# Altium schematic symbol library ad-opamp.SchLib: 4 symbols
Pins are listed as number, name and electrical type; pins without a type are passive.

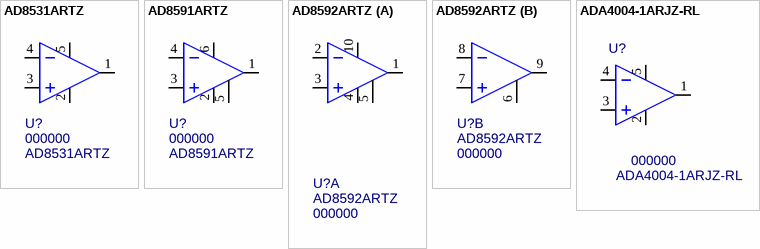
[diagram p0: symbols AD8531ARTZ to ADA4004-1ARJZ-RL]

## AD8531ARTZ
designator U?, comment 000000  value AD8531ARTZ
3MHZ, 250 mA Output, Low Voltage, Rail-to-Rail, Operational Amplifier; Package: SOT23-5; PN: 000000; ExtraInfo: *
footprint SOT23-5 (SOT23, 5-Leads, Body 3.0x3.0mm (max), Pitch 0.95mm, IPC High Density)
simulation model AD8531 (AD8531 SPICE Macro-model)
pins: 1 OUT, 2 V- (power), 3 IN+, 4 IN-, 5 V+ (power)

## AD8591ARTZ
designator U?, comment 000000  value AD8591ARTZ
3MHZ, 250 mA Output, Low Voltage, Rail-to-Rail, Operational Amplifier with Shutdown; Package: SOT23-6; PN: 000000; ExtraInfo: *
footprint SOT23-6 (6-Lead Plastic Small Outline Transistor - Medium Density)
simulation model AD8592 (AD8531 SPICE Macro-model)
pins: 1 OUT, 2 V- (power), 3 IN+, 4 IN-, 5 ~{SD}, 6 V+ (power)

## AD8592ARTZ
designator U?, comment 000000  value AD8592ARTZ
Dual 3MHZ, 250 mA Output, Low Voltage, Rail-to-Rail, Operational Amplifier with Shutdown; Package: SOT23-6; PN: 000000; ExtraInfo: *
footprint MSOP-10 (TSSOP, 10-Leads, Body 3.1x3.1mm (max), Pitch 0.50mm, IPC Medium Density)
part A pins: 1 OUT, 2 -INA, 3 +INA, 4 V- (power), 5 ~{SDA}, 10 V+ (power)
part B pins: 6 ~{SDB}, 7 +INB, 8 -INB, 9 OUTB

## ADA4004-1ARJZ-RL
designator U?, comment 000000  value ADA4004-1ARJZ-RL
12MHZ, 36 V Precision Operational Amplifiers; Package: SOT23-5; PN: 000000; ExtraInfo: *
footprint SOT23-5 (SOT23, 5-Leads, Body 3.0x3.0mm (max), Pitch 0.95mm, IPC High Density)
simulation model ADA4004 (AD4004 SPICE Macro-model)
pins: 1 OUT, 2 V- (power), 3 IN+, 4 IN-, 5 V+ (power)